# Altium footprint library MC33035.PcbLib: 1 footprints
Each footprint in its own frame and in the unit in brackets; x right, y up, seen from the top. Pads: shape width x height; smd on the part's side, far side on the other; paste and mask are expansions set on the pad; w line width, h text height; cw(c..) or ccw(c..) is an arc to the next point about the centre after c.
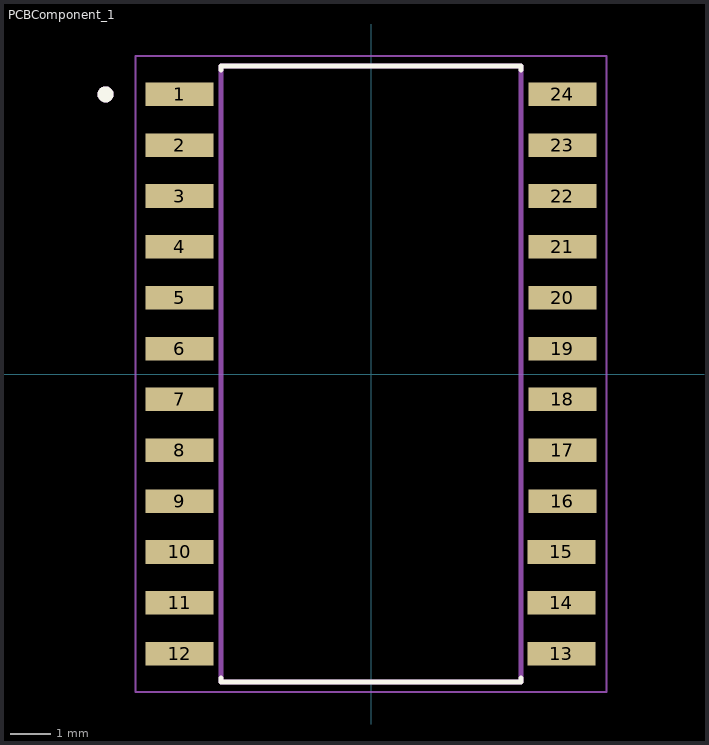
[diagram p0: the footprint, top view; thin cyan lines are the x and y axes]

## PCBComponent_1 [mm]
pads (24):
  rect 1.7x0.59 smd: 1(-4.78,6.985) 2(-4.78,5.715) 3(-4.78,4.445) 4(-4.78,3.175) 5(-4.78,1.905) 6(-4.78,0.635) 7(-4.78,-0.635) 8(-4.78,-1.905) 9(-4.78,-3.175) 10(-4.78,-4.445) 11(-4.78,-5.715) 12(-4.78,-6.985) 13(4.755,-6.985) 14(4.755,-5.715) 15(4.755,-4.445) 16(4.78,-3.175) 17(4.78,-1.905) 18(4.78,-0.635) 19(4.78,0.635) 20(4.78,1.905) 21(4.78,3.175) 22(4.78,4.445) 23(4.78,5.715) 24(4.78,6.985)
Top Overlay:
  circle w0.2: c-6.63,6.985 r0.1
  lines w0.127: -3.75,-7.6 -3.75,-7.698 3.75,-7.698 3.75,-7.6 ; -3.75,7.6 -3.75,7.698 3.75,7.698 3.75,7.6
Mechanical 13:
  circle w0.2: c-6.63,6.985 r0.1
  lines w0.127: -3.75,-7.698 -3.75,7.698 3.75,7.698 3.75,-7.698 -3.75,-7.698
Mechanical 15:
  lines w0.05: -5.88,-7.947 -5.88,7.947 5.88,7.947 5.88,-7.947 -5.88,-7.947
3D body "step_temp.STEP": height 2.65, standoff 0, extent -5.15,-7.698 5.15,7.698